# Altium schematic symbol library Schematics.SchLib: 12 symbols
Pins are listed as number, name and electrical type; pins without a type are passive.

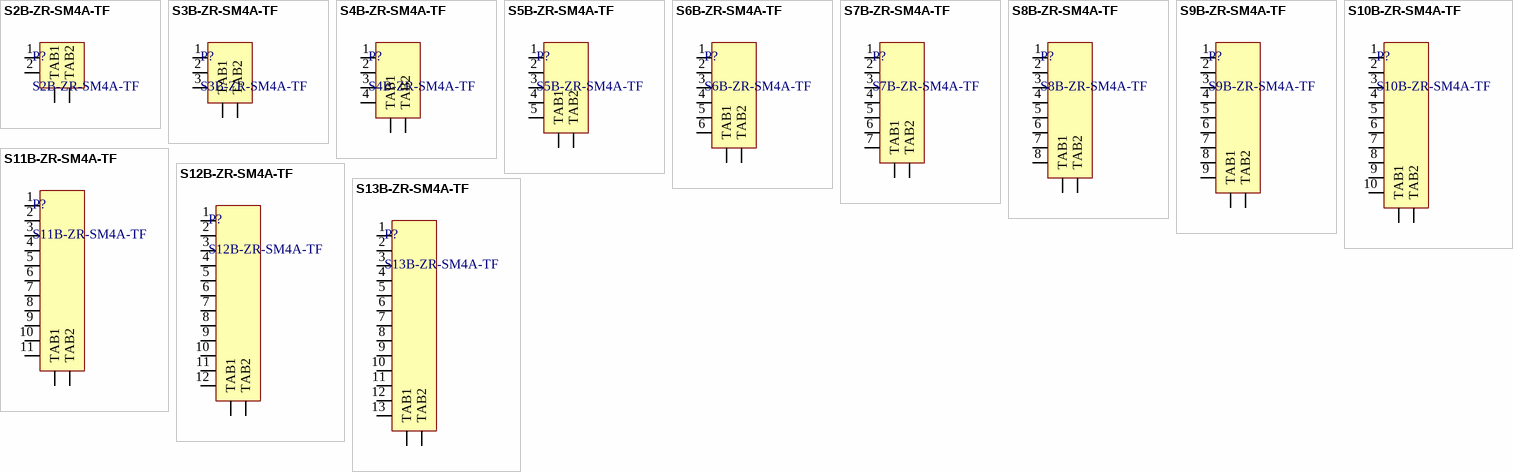
[diagram p0: symbols S2B-ZR-SM4A-TF to S13B-ZR-SM4A-TF]

## S2B-ZR-SM4A-TF
designator P?
2P 1.5mm Polar Male Right Angle Shrouded SMD JST
footprint S2B-ZR-SM4A-TF (Footprint not found)
pins: 1, 2, TAB1, TAB2

## S3B-ZR-SM4A-TF
designator P?
3P 1.5mm Polar Male Right Angle Shrouded SMD JST
footprint S3B-ZR-SM4A-TF (Footprint not found)
pins: 1, 2, 3, TAB1, TAB2

## S4B-ZR-SM4A-TF
designator P?
4P 1.5mm Polar Male Right Angle Shrouded SMD JST
footprint S4B-ZR-SM4A-TF (4P 1.5mm Polar Male Right Angle Shrouded SMD JST)
pins: 1, 2, 3, 4, TAB1, TAB2

## S5B-ZR-SM4A-TF
designator P?
5P 1.5mm Polar Male Right Angle Shrouded SMD JST
footprint S5B-ZR-SM4A-TF (5P 1.5mm Polar Male Right Angle Shrouded SMD JST)
pins: 1, 2, 3, 4, 5, TAB1, TAB2

## S6B-ZR-SM4A-TF
designator P?
6P 1.5mm Polar Male Right Angle Shrouded SMD JST
footprint S6B-ZR-SM4A-TF (6P 1.5mm Polar Male Right Angle Shrouded SMD JST)
pins: 1, 2, 3, 4, 5, 6, TAB1, TAB2

## S7B-ZR-SM4A-TF
designator P?
7P 1.5mm Polar Male Right Angle Shrouded SMD JST
footprint S7B-ZR-SM4A-TF (7P 1.5mm Polar Male Right Angle Shrouded SMD JST)
pins: 1, 2, 3, 4, 5, 6, 7, TAB1, TAB2

## S8B-ZR-SM4A-TF
designator P?
8P 1.5mm Polar Male Right Angle Shrouded SMD JST
footprint S8B-ZR-SM4A-TF (8P 1.5mm Polar Male Right Angle Shrouded SMD JST)
pins: 1, 2, 3, 4, 5, 6, 7, 8, TAB1, TAB2

## S9B-ZR-SM4A-TF
designator P?
9P 1.5mm Polar Male Right Angle Shrouded SMD JST
footprint S9B-ZR-SM4A-TF (9P 1.5mm Polar Male Right Angle Shrouded SMD JST)
pins: 1, 2, 3, 4, 5, 6, 7, 8, 9, TAB1, TAB2

## S10B-ZR-SM4A-TF
designator P?
10P 1.5mm Polar Male Right Angle Shrouded SMD JST
footprint S10B-ZR-SM4A-TF (10P 1.5mm Polar Male Right Angle Shrouded SMD JST)
pins: 1, 2, 3, 4, 5, 6, 7, 8, 9, 10, TAB1, TAB2

## S11B-ZR-SM4A-TF
designator P?
11P 1.5mm Polar Male Right Angle Shrouded SMD JST
footprint S11B-ZR-SM4A-TF (11P 1.5mm Polar Male Right Angle Shrouded SMD JST)
pins: 1, 2, 3, 4, 5, 6, 7, 8, 9, 10, 11, TAB1, TAB2

## S12B-ZR-SM4A-TF
designator P?
12P 1.5mm Polar Male Right Angle Shrouded SMD JST
footprint S12B-ZR-SM4A-TF (12P 1.5mm Polar Male Right Angle Shrouded SMD JST)
pins: 1, 2, 3, 4, 5, 6, 7, 8, 9, 10, 11, 12, TAB1, TAB2

## S13B-ZR-SM4A-TF
designator P?
13P 1.5mm Polar Male Right Angle Shrouded SMD JST
footprint S13B-ZR-SM4A-TF (13P 1.5mm Polar Male Right Angle Shrouded SMD JST)
pins: 1, 2, 3, 4, 5, 6, 7, 8, 9, 10, 11, 12, 13, TAB1, TAB2